# Altium footprint library TopBoardLib.PcbLib: 19 footprints (part 1 of 2)
Each footprint in its own frame and in the unit in brackets; x right, y up, seen from the top. Pads: shape width x height; smd on the part's side, far side on the other; paste and mask are expansions set on the pad; w line width, h text height; cw(c..) or ccw(c..) is an arc to the next point about the centre after c.
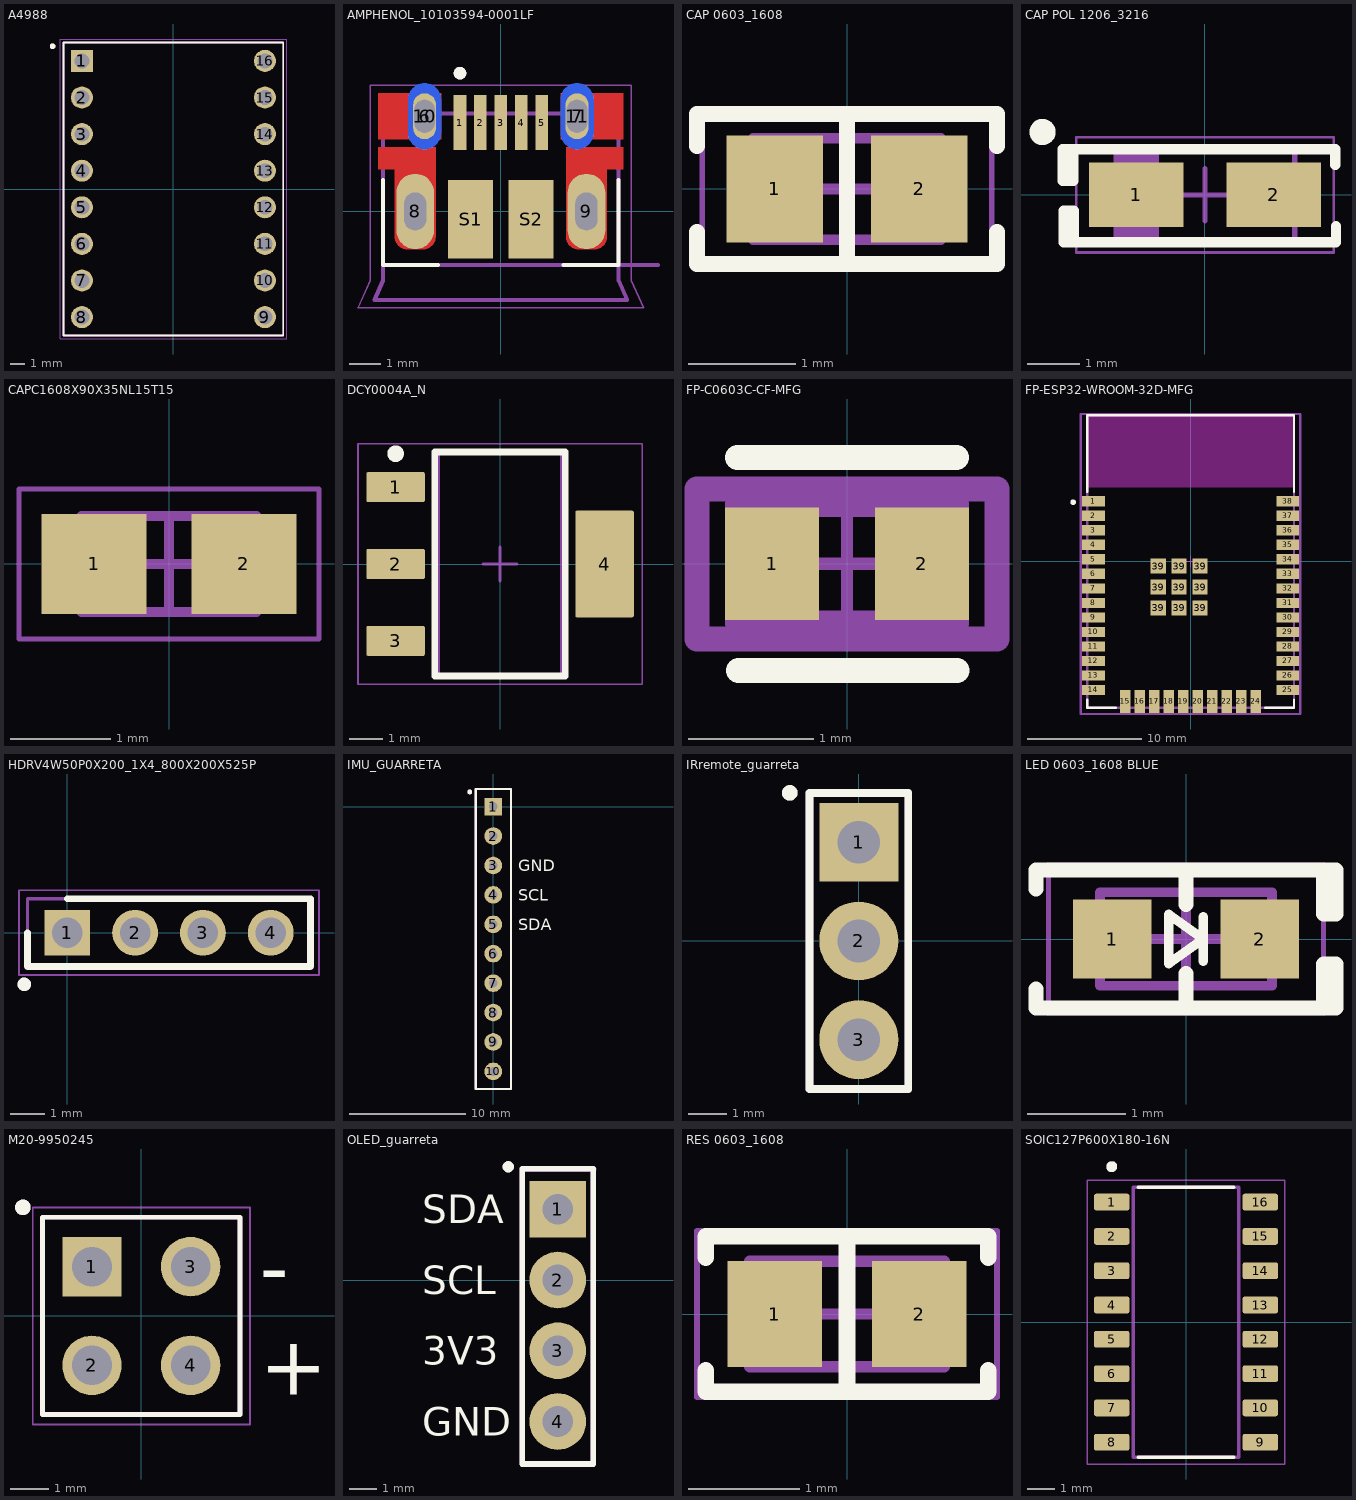
[diagram p0: the footprints below, top view; thin cyan lines are the x and y axes]

## A4988 [mm] "Pololu A4988 Stepper Driver Carrier Footprint"
pads (16):
  rect 1.53x1.53 hole 1.02: 1(-6.35,8.89)
  round 1.53 hole 1.02: 2(-6.35,6.35) 3(-6.35,3.81) 4(-6.35,1.27) 5(-6.35,-1.27) 6(-6.35,-3.81) 7(-6.35,-6.35) 8(-6.35,-8.89) 9(6.35,-8.89) 10(6.35,-6.35) 11(6.35,-3.81) 12(6.35,-1.27) 13(6.35,1.27) 14(6.35,3.81) 15(6.35,6.35) 16(6.35,8.89)
Top Overlay:
  circle w0.2: c-8.382,9.906 r0.1
  lines w0.127: -7.62,-10.16 7.62,-10.16 7.62,10.16 -7.62,10.16 -7.62,-10.16
Top Courtyard:
  text "GND" at 2.118,-9.398 h1.02
  text "VDD" at 2.118,-6.858 h1.02
  text "1B" at 3.302,-4.318 h1.02
  text "1A" at 3.302,-1.778 h1.02
  text "2A" at 3.133,0.762 h1.02
  text "2B" at 3.133,3.302 h1.02
  text "GND" at 2.118,5.842 h1.02
  text "VMOT" at 1.102,8.382 h1.02
  text "DIR" at -4.826,-9.398 h1.02
  text "STEP" at -4.826,-6.858 h1.02
  text "SLP" at -4.826,-4.318 h1.02
  text "RST" at -4.826,-1.778 h1.02
  text "MS3" at -4.826,0.762 h1.02
  text "MS2" at -4.826,3.302 h1.02
  text "MS1" at -4.826,5.842 h1.02
  text "EN" at -4.826,8.382 h1.02
Mechanical 13:
  circle w0.2: c-8.382,9.906 r0.1
  lines w0.127: -7.62,-10.16 7.62,-10.16 7.62,10.16 -7.62,10.16 -7.62,-10.16
Mechanical 15:
  lines w0.05: -7.87,-10.41 -7.87,10.41 7.87,10.41 7.87,-10.41 -7.87,-10.41
3D body "8pinfemaleheader.STEP": height 8.5, standoff -3, extent -7.62,-10.41 -5.08,10.41
3D body "A4988 STEPPER MOTOR DRIVER CARRIER BLACK--3DModel-STEP-56544.STEP": height 14.4, standoff 2.51, extent -7.62,-10.16 7.62,10.16
3D body "8pinfemaleheader.STEP": height 8.5, standoff -3, extent 5.08,-10.41 7.62,10.41
3D body "User Library-Radiator 8_8x8_8x5.step": height 18.79, standoff 13.79, extent -5.924,-2.958 2.876,5.842

## AMPHENOL_10103594-0001LF [mm]
pads (13):
  rect 0.4x1.75 smd: 1(-1.3,2.825) 2(-0.65,2.825) 3(0,2.825) 4(0.65,2.825) 5(1.3,2.825)
  oval 0.73x1.46 hole 0.65 slot 1.05 at 90 deg mask+0: 6(-2.425,3.03) 7(2.425,3.03)
  oval 1.2x2.4 hole 0.7 slot 1.2 at 90 deg: 8(-2.725,0) 9(2.725,0)
  oval 1.05x2.1 smd far side paste-2: 10(-2.425,3.03) 11(2.425,3.03)
  rect 1.425x2.5 smd: S1(-0.962,-0.25) S2(0.962,-0.25)
Top Layer:
  region: -1.9,2.3 -3.9,2.3 -3.9,3.76 -1.9,3.76
  region: 3.9,2.3 1.9,2.3 1.9,3.76 3.9,3.76
  region: -2.075,-0.8 -2.076,-0.821 -2.077,-0.842 -2.08,-0.863 -2.084,-0.883 -2.089,-0.904 -2.095,-0.924 -2.102,-0.943 -2.11,-0.963 -2.119,-0.982 -2.129,-1 -2.14,-1.018 -2.151,-1.035 -2.164,-1.052 -2.178,-1.068 -2.192,-1.083 -2.207,-1.097 -2.223,-1.111 -2.24,-1.124 -2.257,-1.135 -2.275,-1.146 -2.293,-1.156 -2.312,-1.165 -2.332,-1.173 -2.351,-1.18 -2.371,-1.186 -2.392,-1.191 -2.412,-1.195 -2.433,-1.198 -2.454,-1.199 -2.475,-1.2 -2.975,-1.2 -2.996,-1.199 -3.017,-1.198 -3.038,-1.195 -3.058,-1.191 -3.079,-1.186 -3.099,-1.18 -3.118,-1.173 -3.138,-1.165 -3.157,-1.156 -3.175,-1.146 -3.193,-1.135 -3.21,-1.124 -3.227,-1.111 -3.243,-1.097 -3.258,-1.083 -3.272,-1.068 -3.286,-1.052 -3.299,-1.035 -3.31,-1.018 -3.321,-1 -3.331,-0.982 -3.34,-0.963 -3.348,-0.943 -3.355,-0.924 -3.361,-0.904 -3.366,-0.883 -3.37,-0.863 -3.373,-0.842 -3.374,-0.821 -3.375,-0.8 -3.375,1.35 -3.9,1.35 -3.9,2.05 -2.075,2.05
  region: 3.9,1.35 3.375,1.35 3.375,-0.8 3.374,-0.821 3.373,-0.842 3.37,-0.863 3.366,-0.883 3.361,-0.904 3.355,-0.924 3.348,-0.943 3.34,-0.963 3.331,-0.982 3.321,-1 3.31,-1.018 3.299,-1.035 3.286,-1.052 3.272,-1.068 3.258,-1.083 3.243,-1.097 3.227,-1.111 3.21,-1.124 3.193,-1.135 3.175,-1.146 3.157,-1.156 3.138,-1.165 3.118,-1.173 3.099,-1.18 3.079,-1.186 3.058,-1.191 3.038,-1.195 3.017,-1.198 2.996,-1.199 2.975,-1.2 2.475,-1.2 2.454,-1.199 2.433,-1.198 2.412,-1.195 2.392,-1.191 2.371,-1.186 2.351,-1.18 2.332,-1.173 2.312,-1.165 2.293,-1.156 2.275,-1.146 2.257,-1.135 2.24,-1.124 2.223,-1.111 2.207,-1.097 2.192,-1.083 2.178,-1.068 2.164,-1.052 2.151,-1.035 2.14,-1.018 2.129,-1 2.119,-0.982 2.11,-0.963 2.102,-0.943 2.095,-0.924 2.089,-0.904 2.084,-0.883 2.08,-0.863 2.077,-0.842 2.076,-0.821 2.075,-0.8 2.075,2.05 3.9,2.05
Top Overlay:
  circle w0.2: c-1.3,4.4 r0.1
  lines w0.127: -3.75,1 -3.75,-1.7 -1.995,-1.7 ; 1.995,-1.7 3.75,-1.7 3.75,1
Top Solder:
  region: -1.975,-0.8 -1.976,-0.826 -1.978,-0.852 -1.981,-0.878 -1.986,-0.904 -1.992,-0.929 -1.999,-0.955 -2.008,-0.979 -2.018,-1.003 -2.029,-1.027 -2.042,-1.05 -2.056,-1.072 -2.07,-1.094 -2.086,-1.115 -2.103,-1.135 -2.121,-1.154 -2.14,-1.172 -2.16,-1.189 -2.181,-1.205 -2.203,-1.219 -2.225,-1.233 -2.248,-1.246 -2.272,-1.257 -2.296,-1.267 -2.32,-1.276 -2.346,-1.283 -2.371,-1.289 -2.397,-1.294 -2.423,-1.297 -2.449,-1.299 -2.475,-1.3 -2.975,-1.3 -3.001,-1.299 -3.027,-1.297 -3.053,-1.294 -3.079,-1.289 -3.104,-1.283 -3.13,-1.276 -3.154,-1.267 -3.178,-1.257 -3.202,-1.246 -3.225,-1.233 -3.247,-1.219 -3.269,-1.205 -3.29,-1.189 -3.31,-1.172 -3.329,-1.154 -3.347,-1.135 -3.364,-1.115 -3.38,-1.094 -3.394,-1.072 -3.408,-1.05 -3.421,-1.027 -3.432,-1.003 -3.442,-0.979 -3.451,-0.955 -3.458,-0.929 -3.464,-0.904 -3.469,-0.878 -3.472,-0.852 -3.474,-0.826 -3.475,-0.8 -3.475,1.25 -4,1.25 -4,2.15 -1.975,2.15
  region: -1.8,2.2 -4,2.2 -4,3.86 -1.8,3.86
  region: 4,2.2 1.8,2.2 1.8,3.86 4,3.86
  region: 4,1.25 3.475,1.25 3.475,-0.8 3.474,-0.826 3.472,-0.852 3.469,-0.878 3.464,-0.904 3.458,-0.929 3.451,-0.955 3.442,-0.979 3.432,-1.003 3.421,-1.027 3.408,-1.05 3.394,-1.072 3.38,-1.094 3.364,-1.115 3.347,-1.135 3.329,-1.154 3.31,-1.172 3.29,-1.189 3.269,-1.205 3.247,-1.219 3.225,-1.233 3.202,-1.246 3.178,-1.257 3.154,-1.267 3.13,-1.276 3.104,-1.283 3.079,-1.289 3.053,-1.294 3.027,-1.297 3.001,-1.299 2.975,-1.3 2.475,-1.3 2.449,-1.299 2.423,-1.297 2.397,-1.294 2.371,-1.289 2.346,-1.283 2.32,-1.276 2.296,-1.267 2.272,-1.257 2.248,-1.246 2.225,-1.233 2.203,-1.219 2.181,-1.205 2.16,-1.189 2.14,-1.172 2.121,-1.154 2.103,-1.135 2.086,-1.115 2.07,-1.094 2.056,-1.072 2.042,-1.05 2.029,-1.027 2.018,-1.003 2.008,-0.979 1.999,-0.955 1.992,-0.929 1.986,-0.904 1.981,-0.878 1.978,-0.852 1.976,-0.826 1.975,-0.8 1.975,2.15 4,2.15
Mechanical 1:
  lines w0: -2.745,-0.6 -2.705,-0.6 ; -2.745,0.6 -2.705,0.6 ; 2.705,-0.6 2.745,-0.6 ; 2.705,0.6 2.745,0.6
Mechanical 13:
  circle w0.2: c-1.3,4.4 r0.1
  lines w0.127: 5,-1.7 -3.75,-1.7 ; -3.75,-1.7 -3.75,3.11 3.75,3.11 3.75,-2.2 4.02,-2.82 -4.02,-2.82 -3.75,-2.2 -3.75,-1.7
  text "PCB EDGE" at 4.5,-1.5 h0.81
Mechanical 15:
  lines w0.05: -4.545,-3.07 4.545,-3.07 4.15,-2.2 4.15,4.01 -4.15,4.01 -4.15,-2.2 -4.545,-3.07
3D body "step_temp.STEP": height 3.13, standoff -0.47, extent -4.02,-2.794 4.02,3.239

## CAP 0603_1608 [mm] "Chip Capacitor, 2-Leads, Body 1.60x0.80mm, IPC Medium Density"
height 0.89
pads (2):
  rect 0.9x1 smd: 1(-0.675,0) 2(0.675,0)
Top Overlay:
  lines w0.15: -1.4,-0.4 -1.4,-0.7 1.4,-0.7 1.4,-0.4 ; -1.4,0.4 -1.4,0.7 1.4,0.7 1.4,0.4 ; 0,-0.7 0,0.7
Mechanical 13:
  lines w0.1: -0.875,-0.475 -0.875,0.475 0.875,0.475 0.875,-0.475 -0.875,-0.475
Mechanical 15:
  lines w0.05: -1.35,-0.75 -1.35,0.75 1.35,0.75 1.35,-0.75 -1.35,-0.75
  lines w0.1: -0.475,0 0.475,0 ; 0,-0.475 0,0.475
3D body "0603 cap.STEP": height 0.82, standoff 0, extent -0.8,-0.412 0.8,0.412

## CAP POL 1206_3216 [mm] "Molded Capacitor, 2-Leads, Body 3.20x1.6mm, IPC Medium Density"
height 1.7
pads (2):
  rect 1.8x1.23 smd: 1(-1.31,0) 2(1.31,0)
Top Overlay:
  circle w0.25: c-3.1,1.2 r0.125
  rectangle: -2.717,0.273 -2.567,0.873
  rectangle: -2.7,-0.9 -2.55,-0.3
  lines w0.2: -2.517,0.873 -2.517,0.273 -2.717,0.273 -2.717,0.873 2.483,0.873 2.483,0.573 ; -2.5,-0.9 -2.5,-0.3 -2.7,-0.3 -2.7,-0.9 2.5,-0.9 2.5,-0.6
Mechanical 13:
  rectangle: -1.715,-0.85 -0.875,0.85
  lines w0.1: -1.7,-0.85 -1.7,0.85 1.715,0.85 1.715,-0.85 -1.7,-0.85
Mechanical 15:
  lines w0.05: -2.46,-1.1 2.46,-1.1 2.46,1.1 -2.46,1.1 -2.46,-1.1
  lines w0.1: -0.5,0 0.5,0 ; 0,-0.5 0,0.5
3D body "CAP TANT - 1206 - 1.7MM.step": height 1.7, standoff 0, extent -1.715,-0.85 1.715,0.85

## CAPC1608X90X35NL15T15 [mm] "Chip Capacitor, 2-Leads, Body 1.60x0.81mm, IPC Medium Density"
height 0.9
pads (2):
  rect 1.05x1 smd: 1(-0.75,0) 2(0.75,0)
Mechanical 13:
  lines w0.1: -0.875,-0.48 -0.875,0.48 0.875,0.48 0.875,-0.48 -0.875,-0.48
Mechanical 15:
  lines w0.05: -1.5,-0.75 -1.5,0.75 1.5,0.75 1.5,-0.75 -1.5,-0.75
  lines w0.1: -0.48,0 0.48,0 ; 0,-0.48 0,0.48
3D body: height 0.9, standoff 0, extent -0.525,-0.48 0.525,0.48
3D body: height 0.9, standoff 0, extent -0.875,-0.48 -0.525,0.48
3D body: height 0.9, standoff 0, extent 0.525,-0.48 0.875,0.48

## DCY0004A_N [mm] "SOT223, 4-Leads, Body 6.7x3.7mm, Pitch 2.3mm, IPC Medium Density"
height 1.8
pads (4):
  rrect11% 1.75x0.9 smd: 1(-3.125,2.3) 2(-3.125,0) 3(-3.125,-2.3)
  rrect6% 1.75x3.2 smd: 4(3.125,0)
Top Overlay:
  circle w0.25: c-3.125,3.3 r0.125
  lines w0.2: -1.95,-3.35 1.95,-3.35 1.95,3.35 -1.95,3.35 -1.95,-3.35
Mechanical 1:
  text ".Designator" at -1.651,-0.254 h0.8
Mechanical 13:
  lines w0.1: -1.85,-3.35 1.85,-3.35 1.85,3.35 -1.85,3.35 -1.85,-3.35
Mechanical 15:
  lines w0.05: -4.25,-3.6 4.25,-3.6 4.25,3.6 -4.25,3.6 -4.25,-3.6
  lines w0.1: -0.5,0 0.5,0 ; 0,-0.5 0,0.5
3D body "SOT-223.stp": height 1.62, standoff -0.03, extent -3.5,-3.25 3.5,3.25

## FP-C0603C-CF-MFG [mm]
pads (2):
  rect 0.75x0.9 smd paste+0 mask+0: 1(-0.6,0) 2(0.6,0)
Top Overlay:
  lines w0.2: -0.875,0.85 0.875,0.85 ; -0.87,-0.853 0.88,-0.853
Top 3D Body:
  lines w0.2: -0.875,-0.475 -0.875,0.475 0.875,0.475 0.875,-0.475 -0.875,-0.475
Top Courtyard:
  lines w0.2: -1.2,-0.6 -1.2,0.6 1.2,0.6 1.2,-0.6 -1.2,-0.6
Top Assembly:
  lines w0.2: -1.2,-0.6 -1.2,0.6 1.2,0.6 1.2,-0.6 -1.2,-0.6
  text ".Designator" at 0,0.188 h1
Top Component Center:
  lines w0.1: -0.5,0 0.5,0 ; 0,-0.5 0,0.5
3D body "Cap_KEMET_C0603C272M5JACTU_eec.STEP": height 0.25, standoff 0, extent -1.2,-0.6 1.2,0.6

## FP-ESP32-WROOM-32D-MFG [mm]
pads (47):
  rect 2x0.9 smd paste+0 mask+0: 1(-8.5,5.26) 2(-8.5,3.99) 3(-8.5,2.72) 4(-8.5,1.45) 5(-8.5,0.18) 6(-8.5,-1.09) 7(-8.5,-2.36) 8(-8.5,-3.63) 9(-8.5,-4.9) 10(-8.5,-6.17) 11(-8.5,-7.44) 12(-8.5,-8.71) 13(-8.5,-9.98) 14(-8.5,-11.25) 25(8.5,-11.25) 26(8.5,-9.98) 27(8.5,-8.71) 28(8.5,-7.44) 29(8.5,-6.17) 30(8.5,-4.9) 31(8.5,-3.63) 32(8.5,-2.36) 33(8.5,-1.09) 34(8.5,0.18) 35(8.5,1.45) 36(8.5,2.72) 37(8.5,3.99) 38(8.5,5.26)
  rect 0.9x2 smd paste+0 mask+0: 15(-5.715,-12.25) 16(-4.445,-12.25) 17(-3.175,-12.25) 18(-1.905,-12.25) 19(-0.635,-12.25) 20(0.635,-12.25) 21(1.905,-12.25) 22(3.175,-12.25) 23(4.445,-12.25) 24(5.715,-12.25)
  rect 1.33x1.33 smd paste+0 mask+0: 39(-2.835,-4.075) 39(-2.835,-2.24) 39(-2.835,-0.405) 39(-1,-4.075) 39(-1,-2.24) 39(-1,-0.405) 39(0.835,-4.075) 39(0.835,-2.24) 39(0.835,-0.405)
Top Overlay:
  circle w0.25: c-10.275,5.185 r0.125
  lines w0.2: -9.05,-12.075 -9.05,-12.8 -6.54,-12.8 ; -9.05,6.085 -9.05,12.8 9.05,12.8 9.05,6.085 ; 6.54,-12.8 9.05,-12.8 9.05,-12.075
Keep-Out Layer:
  rectangle: -9,6.45 9,12.75
  rectangle: -9,6.45 9,12.75
Top 3D Body:
  lines w0.2: -9.05,-12.8 -9.05,12.8 9.05,12.8 9.05,-12.8 -9.05,-12.8
Top Courtyard:
  lines w0.2: -9.6,-13.35 -9.6,12.9 9.6,12.9 9.6,-13.35 -9.6,-13.35
Top Assembly:
  lines w0.2: -9.6,-13.35 -9.6,12.9 9.6,12.9 9.6,-13.35 -9.6,-13.35
  text ".Designator" at 0,-0.037 h1
Top Component Center:
  lines w0.1: -0.5,0 0.5,0 ; 0,-0.5 0,0.5
3D body "UNK_Espressif_Systems_ESP32-WROOM-32D_eec.STEP": height 0.25, standoff 0, extent -9.6,-13.35 9.6,12.9

## HDRV4W50P0X200_1X4_800X200X525P [mm]
pads (4):
  rect 1.35x1.35 hole 0.9: 1(0,0)
  round 1.35 hole 0.9: 2(2,0) 3(4,0) 4(6,0)
Top Overlay:
  circle w0.2: c-1.27,-1.524 r0.1
  lines w0.2: -1.175,0 -1.175,-1 7.175,-1 7.175,1 0,1
Mechanical 13:
  circle w0.2: c-1.27,-1.524 r0.1
  lines w0.1: -1.175,-1 -1.175,1 7.175,1 7.175,-1 -1.175,-1
Mechanical 15:
  lines w0.05: -1.425,-1.25 -1.425,1.25 7.425,1.25 7.425,-1.25 -1.425,-1.25
3D body "m22-2010405.STEP": height 4.9, standoff -3.5, extent -1.032,-0.873 6.968,1.127

## IMU_GUARRETA [mil]
pads (10):
  rect 60x60 hole 30: 1(0,0)
  round 60 hole 30: 2(0,-100) 3(0,-200) 4(0,-300) 5(0,-400) 6(0,-500) 7(0,-600) 8(0,-700) 9(0,-800) 10(0,-900)
Top Overlay:
  circle w7.87: c-80,50 r3.94
  lines w7.87: -60,-960 -60,60 60,60 60,-960 -60,-960
  text "SDA" at 85,-419.99 h40
  text "GND" at 85,-219.99 h40
  text "SCL" at 85,-319.99 h40
Top Assembly:
  lines w7.87: -60,-960 60,-960 60,60 -60,60 -60,-960
Mechanical 13:
  circle w7.87: c-80,50 r3.94
3D body "AdafruitIMU10DOF_simple.STEP": height 542.67, standoff 435, extent -799.46,-1199.25 100.54,300.75
3D body "Female Pin Header 01x10 Pitch 2.54mm Height 8.5mm.stp": height 334.65, standoff -125.98, extent -50,-950 50,50
3D body "1x10 Male Pin Header.STEP": height 552.11, standoff 19.04, extent -49.21,-950.2 49.21,50

## IRremote_guarreta [mil]
pads (3):
  rect 80x80 hole 43.31: 1(0,100)
  round 80 hole 43.31: 2(0,0) 3(0,-100)
Top Overlay:
  circle w7.87: c-70,150 r3.94
  lines w7.87: -50,-150 50,-150 50,150 -50,150 -50,-150
Top Courtyard:
  text "SIG" at 85,80.01 h40
  text "VCC" at 85,-19.99 h40
  text "GND" at 85,-119.99 h40
Top Assembly:
  lines w7.87: -50,-150 50,-150 50,150 25,150 -25,150 -50,150 -50,-150
Mechanical 13:
  circle w7.87: c-70,150 r3.94
3D body "Female Pin Header 01x03 Pitch 2.54mm Height 8.5mm.stp": height 335.15, standoff -125.48, extent -50,-150 50,150
3D body "Sensor_ir.STEP": height 886.34, standoff 118.62, extent -659.44,-301.18 88.59,305.12

## LED 0603_1608 BLUE [mm] "Chip Diode, 2-Leads, Body 1.60x0.80mm, IPC Medium Density"
height 0.45
pads (2):
  rect 0.8x0.8 smd: 1(-0.75,0) 2(0.75,0)
Top Overlay:
  lines w0.1: 0.175,-0.225 0.175,0 ; 0.175,0.225 0.175,0 ; 0.175,0 -0.175,-0.25 -0.175,0 -0.175,0.25 0.175,0
  lines w0.15: -1.524,-0.508 -1.524,-0.7 1.5,-0.7 ; -1.524,0.508 -1.524,0.7 1.5,0.7 ; 0,-0.7 0,-0.35 ; 0,0.35 0,0.7 ; 1.397,-0.7 1.397,-0.254 1.524,-0.254 1.524,-0.7 1.397,-0.7 ; 1.397,0.254 1.397,0.7 1.524,0.7 1.524,0.254 1.397,0.254
Mechanical 13:
  lines w0.1: -0.875,-0.475 0.875,-0.475 0.875,0.475 -0.875,0.475 -0.875,-0.475
Mechanical 15:
  lines w0.05: -1.397,-0.75 1.397,-0.75 1.397,0.75 -1.397,0.75 -1.397,-0.75
  lines w0.1: -0.475,0 0.475,0 ; 0,-0.475 0,0.475
3D body "LED 0603 Base BLUE.STEP": height 0.28, standoff 0, extent -0.8,-0.4 0.8,0.4
3D body "LED 0603 Lens BLUE.STEP": height 0.53, standoff 0.18, extent -0.55,-0.4 0.55,0.4

## M20-9950245 [mm] "M20-9950245 Pin Connector"
pads (4):
  rect 1.53x1.53 hole 1.02: 1(-1.27,1.27)
  round 1.53 hole 1.02: 2(-1.27,-1.27) 3(1.27,1.27) 4(1.27,-1.27)
Top Overlay:
  circle w0.2: c-3.048,2.794 r0.1
  lines w0.127: -2.54,-2.54 -2.54,2.54 2.54,2.54 2.54,-2.54 -2.54,-2.54
  text "-" at 3.048,0.508 h1.52
  text "+" at 3.048,-2.032 h1.52
Bottom Overlay:
  text "-" at 3.048,0.508 h1.52
  text "+" at 3.048,-2.032 h1.52
Mechanical 13:
  circle w0.2: c-3.048,2.794 r0.1
  lines w0.127: -2.54,-2.54 2.54,-2.54 2.54,2.54 -2.54,2.54 -2.54,-2.54
Mechanical 15:
  lines w0.05: -2.794,-2.794 2.794,-2.794 2.794,2.794 -2.794,2.794 -2.794,-2.794
3D body "4218140_142270-1.STEP": height 2.49, standoff 0.05, extent -2.49,7.874 2.49,13.909
3D body "4218140_142270-1.STEP": height 5.03, standoff 2.59, extent -2.49,7.874 2.49,13.909
3D body "M20-9950245_22.STEP": height 5.13, standoff -2.95, extent -2.54,-1.568 2.54,12.192

## OLED_guarreta [mil]
pads (4):
  rect 80x80 hole 43.31: 1(-350,100)
  round 80 hole 43.31: 2(-350,0) 3(-350,-100) 4(-350,-200)
Top Overlay:
  circle w7.87: c-420,160 r3.94
  lines w7.87: -400,-260 -400,157.28 -300,157.28 -300,-260 -400,-260
  text "SDA" at -541.63,80.01 h40
  text "SCL" at -541.63,-19.99 h40
  text "3V3" at -541.63,-119.99 h40
  text "GND" at -541.63,-219.99 h40
Top Assembly:
  lines w7.87: -400,156.3 -400,-260 -300,-260 -300,156.3 ; -399.02,156.3 -374.02,156.3 -324.02,156.3 -299.02,156.3
Mechanical 13:
  circle w7.87: c-420,160 r3.94
3D body "1x4 Male Pin Header.STEP": height 100.21, standoff 1.79, extent -338.96,-250.2 194.11,150
3D body "OSSD-128x64.x_b": height 111.81, standoff -911.81, extent 30.76,-542.13 231.54,442.13
3D body "m22-4-rightangle.STEP": height 101, standoff -124.96, extent -362.99,-250 -24.41,150

## RES 0603_1608 [mm] "Chip Resistor, 2-Leads, Body 1.60x0.80mm, IPC Medium Density"
height 0.45
pads (2):
  rect 0.85x0.95 smd: 1(-0.65,0) 2(0.65,0)
Top Overlay:
  lines w0.15: -1.27,-0.508 -1.27,-0.7 1.27,-0.7 1.27,-0.508 ; -1.27,0.508 -1.27,0.7 1.27,0.7 1.27,0.508 ; 0,-0.7 0,0.7
Mechanical 13:
  lines w0.1: -0.875,-0.475 -0.875,0.475 0.875,0.475 0.875,-0.475 -0.875,-0.475
Mechanical 15:
  lines w0.05: -1.35,-0.75 -1.35,0.75 1.35,0.75 1.35,-0.75 -1.35,-0.75
  lines w0.1: -0.475,0 0.475,0 ; 0,-0.475 0,0.475
3D body "0603 resistor.STEP": height 0.45, standoff 0, extent -0.8,-0.4 0.8,0.4

## SOIC127P600X180-16N [mm]
pads (16):
  rrect25% 1.31x0.62 smd: 1(-2.75,4.445) 2(-2.75,3.175) 3(-2.75,1.905) 4(-2.75,0.635) 5(-2.75,-0.635) 6(-2.75,-1.905) 7(-2.75,-3.175) 8(-2.75,-4.445) 9(2.75,-4.445) 10(2.75,-3.175) 11(2.75,-1.905) 12(2.75,-0.635) 13(2.75,0.635) 14(2.75,1.905) 15(2.75,3.175) 16(2.75,4.445)
Top Overlay:
  circle w0.2: c-2.75,5.755 r0.1
  lines w0.127: -1.775,-5 1.775,-5 -1.775,-5 ; -1.775,5 1.775,5 -1.775,5
Mechanical 13:
  circle w0.2: c-2.75,5.755 r0.1
  lines w0.127: -1.95,-5 -1.95,5 1.95,5 1.95,-5 -1.95,-5
Mechanical 15:
  lines w0.05: -3.655,-5.25 3.655,-5.25 3.655,5.25 -3.655,5.25 -3.655,-5.25
3D body "step_temp.STEP": height 1.8, standoff 0, extent -3,-5 3,5